# Altium footprint library mainBoard.PcbLib: 22 footprints (part 2 of 2)
Each footprint in its own frame and in the unit in brackets; x right, y up, seen from the top. Pads: shape width x height; smd on the part's side, far side on the other; paste and mask are expansions set on the pad; w line width, h text height; cw(c..) or ccw(c..) is an arc to the next point about the centre after c.
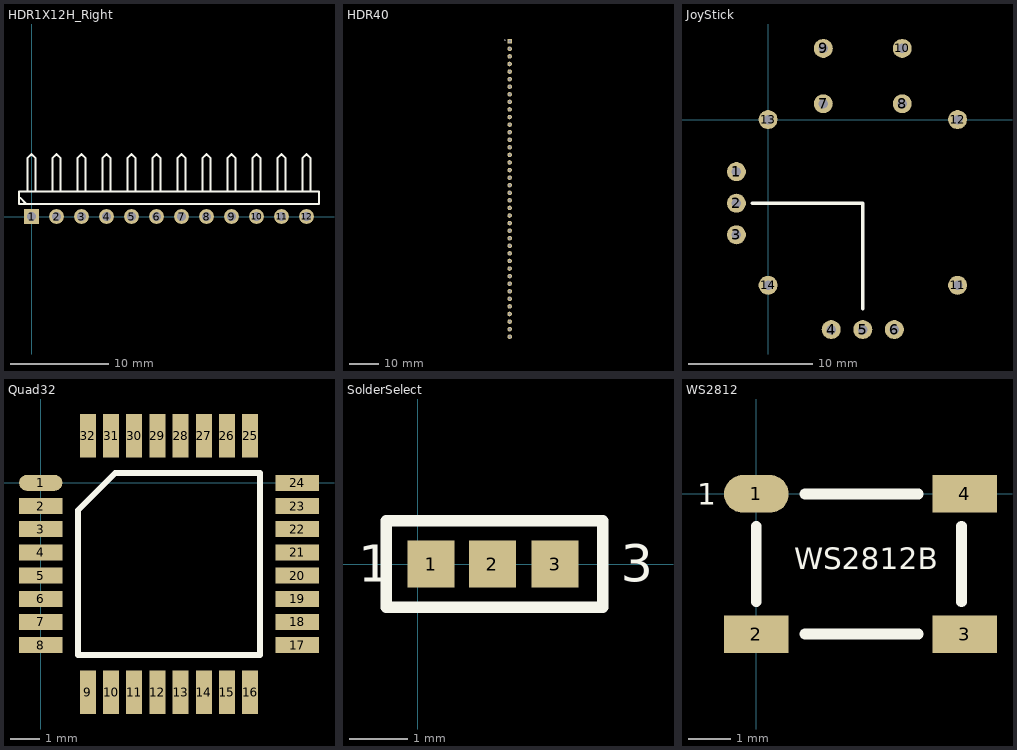
[diagram p1: the footprints below, top view; thin cyan lines are the x and y axes]

## HDR1X12H_Right [mm] "Connector; Header; 12 Position; Right Angle"
pads (12):
  rect 1.5x1.5 hole 0.9: 1(0,0)
  round 1.5 hole 0.9: 2(2.54,0) 3(5.08,0) 4(7.62,0) 5(10.16,0) 6(12.7,0) 7(15.24,0) 8(17.78,0) 9(20.32,0) 10(22.86,0) 11(25.4,0) 12(27.94,0)
Top Overlay:
  lines w0.2: -1.143,1.905 -0.508,1.27 ; -0.423,2.54 -0.423,5.927 0,6.35 0.423,5.927 0.423,2.54 ; 2.117,2.54 2.117,5.927 2.54,6.35 2.963,5.927 2.963,2.54 ; 4.657,2.54 4.657,5.927 5.08,6.35 5.503,5.927 5.503,2.54 ; 7.197,2.54 7.197,5.927 7.62,6.35 8.043,5.927 8.043,2.54 ; 9.737,2.54 9.737,5.927 10.16,6.35 10.583,5.927 10.583,2.54 ; 12.277,2.54 12.277,5.927 12.7,6.35 13.123,5.927 13.123,2.54 ; 14.817,2.54 14.817,5.927 15.24,6.35 15.663,5.927 15.663,2.54 ; 17.357,2.54 17.357,5.927 17.78,6.35 18.203,5.927 18.203,2.54 ; 19.897,2.54 19.897,5.927 20.32,6.35 20.743,5.927 20.743,2.54 ; 22.437,2.54 22.437,5.927 22.86,6.35 23.283,5.927 23.283,2.54 ; 24.977,2.54 24.977,5.927 25.4,6.35 25.823,5.927 25.823,2.54 ; 27.517,2.54 27.517,5.927 27.94,6.35 28.363,5.927 28.363,2.54 ; -1.27,1.27 -1.27,2.54 29.21,2.54 29.21,1.27 27.305,1.27 -1.27,1.27

## HDR40 [mil] "40 pin header"
pads (40):
  rect 60x60 hole 30: 1(-47500,-45500)
  round 60 hole 30: 2(-47500,-45600) 3(-47500,-45700) 4(-47500,-45800) 5(-47500,-45900) 6(-47500,-46000) 7(-47500,-46100) 8(-47500,-46200) 9(-47500,-46300) 10(-47500,-46400) 11(-47500,-46500) 12(-47500,-46600) 13(-47500,-46700) 14(-47500,-46800) 15(-47500,-46900) 16(-47500,-47000) 17(-47500,-47100) 18(-47500,-47200) 19(-47500,-47300) 20(-47500,-47400) 21(-47500,-47500) 22(-47500,-47600) 23(-47500,-47700) 24(-47500,-47800) 25(-47500,-47900) 26(-47500,-48000) 27(-47500,-48100) 28(-47500,-48200) 29(-47500,-48300) 30(-47500,-48400) 31(-47500,-48500) 32(-47500,-48600) 33(-47500,-48700) 34(-47500,-48800) 35(-47500,-48900) 36(-47500,-49000) 37(-47500,-49100) 38(-47500,-49200) 39(-47500,-49300) 40(-47500,-49400)
Top Overlay:
  text "1" at -47575,-45500 h30

## JoyStick [mil] "Joystick with 2 axis, and 1 push button."
pads (14):
  round 60 hole 30: 1(-100,-165) 2(-100,-265) 3(-100,-365) 4(200,-665) 5(300,-665) 6(400,-665) 7(175,50) 8(425,50) 9(175,225) 10(425,225) 11(600,-525) 12(600,0) 13(0,0) 14(0,-525)
Top Overlay:
  lines w10: -50,-265 300,-265 300,-600

## Quad32 [mm]
pads (32):
  oval 1.5x0.55 smd: 1(0,0)
  rect 1.5x0.55 smd: 2(0,-0.8) 3(0,-1.6) 4(0,-2.4) 5(0,-3.2) 6(0,-4) 7(0,-4.8) 8(0,-5.6) 17(8.85,-5.6) 18(8.85,-4.8) 19(8.85,-4) 20(8.85,-3.2) 21(8.85,-2.4) 22(8.85,-1.6) 23(8.85,-0.8) 24(8.85,0)
  rect 0.55x1.5 smd: 9(1.625,-7.225) 10(2.425,-7.225) 11(3.225,-7.225) 12(4.025,-7.225) 13(4.825,-7.225) 14(5.625,-7.225) 15(6.425,-7.225) 16(7.225,-7.225) 25(7.225,1.625) 26(6.425,1.625) 27(5.625,1.625) 28(4.825,1.625) 29(4.025,1.625) 30(3.225,1.625) 31(2.425,1.625) 32(1.625,1.625)
Top Overlay:
  lines w0.2: 1.285,-5.94 7.565,-5.94 7.565,0.34 2.57,0.34 1.285,-0.945 1.285,-5.94

## SolderSelect [mm]
pads (3):
  rect 0.8x0.8 smd: 1(0.229,0) 2(1.27,0) 3(2.337,0)
Top Overlay:
  lines w0.2: -0.533,-0.737 3.15,-0.737 3.15,0.737 -0.533,0.737 -0.533,0.555 -0.533,-0.737
  text "3" at 3.454,-0.305 h0.64
  text "1" at -1.016,-0.305 h0.64
Top Solder:
  rectangle: 1.753,-0.508 2.057,0.508
  rectangle: 0.483,-0.508 0.787,0.508

## WS2812 [mil]
pads (4):
  oval 60x35 smd: 1(0,0)
  rect 60x35 smd: 2(0,-130) 3(193,-130) 4(193,0)
Top Overlay:
  lines w10: 0,-100 0,-30 ; 45,-130 150,-130 ; 45,0 150,0 ; 190,-100 190,-30
  text "WS2812B" at 35,-70 h20
  text "1" at -55,-10 h20